# Altium schematic symbol library IFBschelib.SchLib: 126 symbols (part 1 of 2)
Pins are listed as number, name and electrical type; pins without a type are passive.

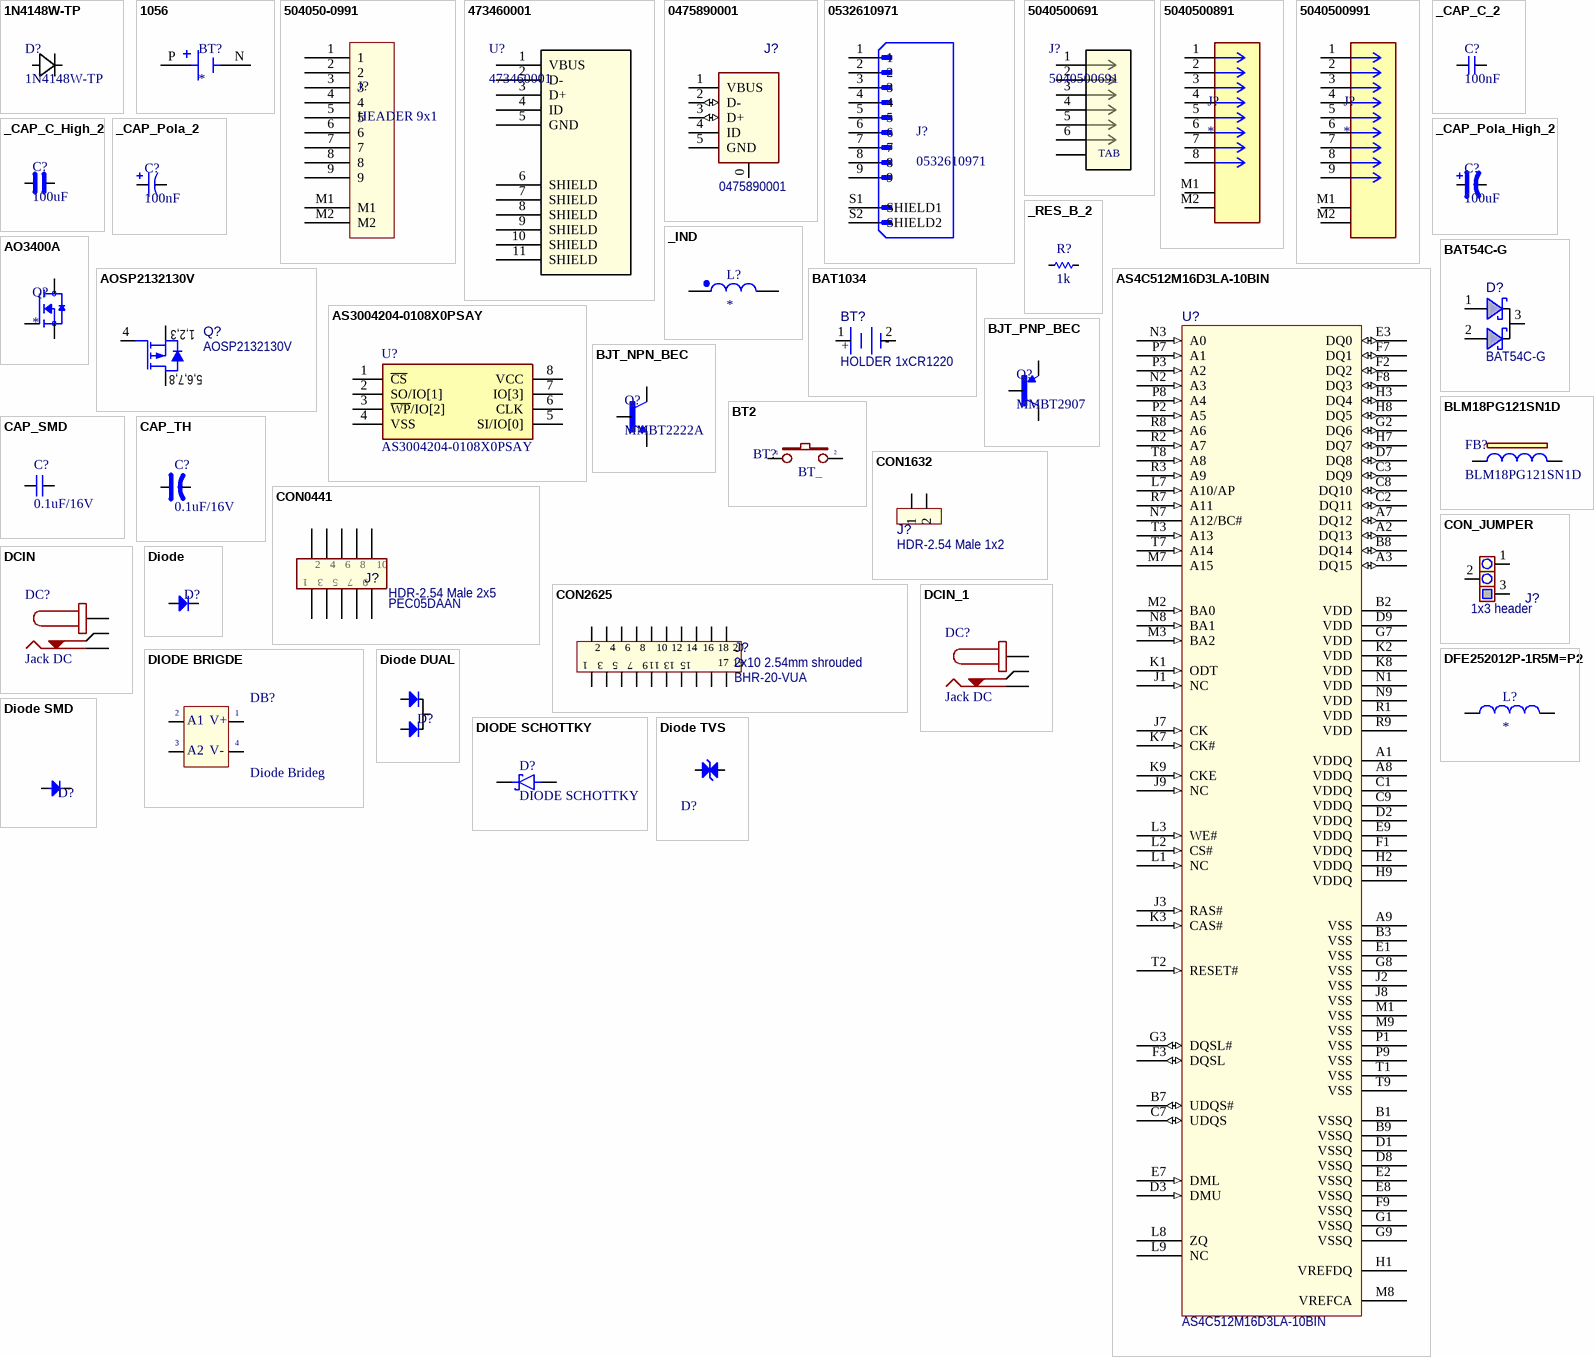
[diagram p0: symbols 1N4148W-TP to Diode TVS]

## 1N4148W-TP
designator D?
Description; Manufacturer_Name: MCC; Copyright: Copyright (C) 2026 Ultra Librarian. All rights reserved.; Manufacturer_Part_Number: 1N4148W-TP
footprint SOD123_MCC
pins: 1, 2

## 1056
designator BT?
BATTERY HOLDER COIN 12.5MM SMD, SMT, 1 Coin Cell, 12mm, Plastic, UL94V-0 | Keystone Electronics 1056; MF: Keystone Electronics Corp.; MP: 1056; SnapEDA_Link: https://www.snapeda.com/parts/1056/Keystone/view-part/?ref=snap; Package: None; Value: *; Check_prices: https://www.snapeda.com/parts/1056/Keystone/view-part/?ref=eda
footprint BAT_1056
pins: N NEG, P POS

## 504050-0991
designator J?, comment HEADER 9x1
Molex Pico-Lock 504050-0991
footprint MOLEX_5040500991
pins: 1, 2, 3, 4, 5, 6, 7, 8, 9, M1, M2

## 473460001
designator U?
Micro-USB B Receptacle with Flange, Bottom Mount, Surface Mount, Lead-Free; Manufacturer_Name: Molex Connector Corporation; Copyright: Copyright (C) 2025 Ultra Librarian. All rights reserved.; Manufacturer_Part_Number: 473460001; RefDes: RefDes; Type: Type
footprint 47346-0001_MOL
pins: 1 VBUS, 2 D-, 3 D+, 4 ID, 5 GND (power), 6 SHIELD (power), 7 SHIELD (power), 8 SHIELD (power), 9 SHIELD (power), 10 SHIELD (power), 11 SHIELD (power)

## 0475890001
designator J?, comment value 0475890001  (hidden comment: CON USB2.0 Mini_Micro)
CONN RCPT MICRO USB AB 5P SMD RA; Manufacturer 1: Molex, LLC; MCHP-ID: CON1753; Description_: CON USB2.0 MICRO-AB FEMALE SMD R/A; Dev Tools Status: Production; Owner: Dragos Danaila; Voltage: 30VAC; Current: 1A, 1.8A; Custom Parameters: 10000 mating cycles; Populated: YES; Revision: 1; Symbol: CON USB2.0 Mini_Micro; Status: MCL Design; ComponentLink1URL: https://chn-vm-apps.microchip.com/mchprepo/parts/Datasheets/475890001_sd.pdf; ComponentLink1Description: SVN Datasheet; ComponentLink2URL: C:\ALTIUM_WORK\00001_MCHP-CDB\Datasheets\475890001_sd.pdf; ComponentLink2Description: Local Datasheet; ComponentLink3URL: C:\ALTIUM_WORK\00001_MCHP-CDB\Library\LibraryRefs\CON USB2.0 Mini_Micro.SchLib; ComponentLink3Description: Open Symbol; ComponentLink4URL: C:\ALTIUM_WORK\00001_MCHP-CDB\Library\Footprints\CON_USB_Micro-AB_SMD_RA_MOLEX_0475890001.PcbLib; ComponentLink4Description: Open Footprint; ComponentLink5Description: Open Footprint 2; ComponentLink6Description: Open Footprint 3; ComponentLink7Description: Open Footprint 4; Type: USB; Category: Connector; Manufacturer Part Number 1: 0475890001; Supplier 1: Digi-Key; Supplier Part Number 1: WM17143CT-ND; Quantity Override: 1; Operating Temperature: -35C to +85C; Assembly Type: SMD
footprint CON_USB_Micro-AB_SMD_RA_MOLEX_0475890001 (Connector, Receptacle, Micro-USB Type AB, R/A, SMT)
pins: 0 SHLD, 1 VBUS (power), 2 D- (io), 3 D+ (io), 4 ID, 5 GND (power)
4 alternate drawings of the same symbol

## 0532610971
designator J?
CONN HEADER SMD R/A 9POS 1.25MM
footprint 0532610971 (CONN HEADER SMD R/A 9POS 1.25MM)
pins: 1, 2, 3, 4, 5, 6, 7, 8, 9, S1 SHIELD1, S2 SHIELD2

## 5040500691
designator J?
1.50mm Pitch, Pico-Lock PCB Header, Single Row, Right-Angle, Surface Mount, Gold (Au) Plating, Positive Lock, 6 Circuits, Tape and Reel; Manufacturer_Name: Molex Connector Corporation; Copyright: Copyright (C) 2025 Ultra Librarian. All rights reserved.; Manufacturer_Part_Number: 5040500691; Datasheet: https://www.molex.com/en-us/products/part-detail-pdf/5040500691?display=pdf; RefDes: RefDes; Type: Type
footprint 5040500691
pins: 1, 2, 3, 4, 5, 6, 7
text: TAB

## 5040500891
designator J?
Connector Header Surface Mount, Right Angle 8 position 0.059" (1.50mm)`
footprint MOLEX_5040500891
footprint MOLEX_5040500891
pins: 1, 2, 3, 4, 5, 6, 7, 8, M1, M2

## 5040500991
designator J?
Connector Header Surface Mount, Right Angle 9 position 0.059" (1.50mm)
footprint 5040500991
pins: 1, 2, 3, 4, 5, 6, 7, 8, 9, M1, M2

## _CAP_C_2
designator C?, comment 100nF
CAP CHIP
footprint CAP_C_1005X60
footprint CAP_C_1608X80 (Chip Capacitor, 2-Leads, Body 1.60x0.80mm, IPC Medium Density)
footprint CAP_C_2012X110 (Chip Capacitor, 2-Leads, Body 2.00x1.25mm, IPC High Density)
footprint CAP_C_3216X140 (Chip Capacitor, 2-Leads, Body 3.20x1.60mm, IPC High Density)
footprint CAP_C_3225X80 (Chip Capacitor, 2-Leads, Body 3.20x2.50mm, IPC Medium Density)
footprint CAP_C_0603x30 (Chip Capacitor, 2-Leads, Body 0.6x0.3mm, IPC Medium Density)
pins: 1, 2

## _CAP_C_High_2
designator C?, comment 100uF
CAP CHIP High Value
footprint CAP_C_1005X60
footprint CAP_C_1608X80 (Chip Capacitor, 2-Leads, Body 1.60x0.80mm, IPC Medium Density)
footprint CAP_C_2012X110 (Chip Capacitor, 2-Leads, Body 2.00x1.25mm, IPC High Density)
footprint CAP_C_3216X140 (Chip Capacitor, 2-Leads, Body 3.20x1.60mm, IPC High Density)
footprint CAP_C_3225X80 (Chip Capacitor, 2-Leads, Body 3.20x2.50mm, IPC Medium Density)
pins: 1, 2

## _CAP_Pola_2
designator C?, comment 100nF
CAP Polarization
footprint CAP_MP_1608X90 (Molded Capacitor, 2-Leads, Body 1.60x0.85mm, IPC Medium Density)
footprint CAP_MP_2012X170 (Molded Capacitor, 2-Leads, Body 2.05x1.40mm, IPC Medium Density)
pins: 1, 2

## _CAP_Pola_High_2
designator C?, comment 100uF
CAP Polarization High Value
footprint CAP_MP_3216X180 (Molded Capacitor, 2-Leads, Body 3.20x1.65mm, IPC Medium Density)
footprint CAP_MP_1608X90 (Molded Capacitor, 2-Leads, Body 1.60x0.85mm, IPC Medium Density)
footprint CAP_MP_2012X170 (Molded Capacitor, 2-Leads, Body 2.05x1.40mm, IPC Medium Density)
footprint CAP_MP_3528X210 (Molded Capacitor, 2-Leads, Body 3.50x2.85mm, IPC Medium Density)
pins: 1, 2

## _IND
designator L?
footprint IND730660x480 (Precision Wire Wound Inductor, 2-Leads, Body 7.30x6.60mm, IPC Medium Density)
footprint IND_C_2012X65 (Chip Inductor, 2-Leads, Body 2.00x1.25mm, IPC High Density)
footprint SRP7050TA-220M
pins: 1, 2

## _RES_B_2
designator R?, comment 1k
RES
footprint RES_C_1005X40
footprint RES_C_1608X60 (Chip Resistor, 2-Leads, Body 1.63x0.83mm, IPC High Density)
footprint RES_C_2012X65 (Chip Resistor, 2-Leads, Body 2.00x1.25mm, IPC High Density)
footprint RES_C_3216X70 (Chip Resistor, 2-Leads, Body 3.20x1.60mm, IPC Medium Density)
footprint RES_C_0603X30 (Chip Resistor, 2-Leads, Body 0.6x0.3mm, IPC Medium Density)
footprint RES_C_1005x30_L (Chip Resistor, 2-Leads, Body 1.0x0.5mm, IPC Medium Density)
pins: 1, 2

## AO3400A
designator Q?
N-Channel 30 V 5.7A (Ta) 1.4W (Ta) Surface Mount SOT-23-3; MF: Alpha & Omega Semiconductor; MP: AO3400A; SnapEDA_Link: https://www.snapeda.com/parts/AO3400A/Alpha/view-part/?ref=snap; Package: SOT-23 Alpha &amp; Omega Semiconductor Inc.; Value: *; Check_prices: https://www.snapeda.com/parts/AO3400A/Alpha/view-part/?ref=eda
footprint SOT95P280X125-3N
pins: 1 G, 2 S, 3 D

## AOSP2132130V
designator Q?, comment value AOSP2132130V  (hidden comment: Transistor MOS-P SSSGDDDD)
MOSFET P-CH 30V 11A 8SOIC; Manufacturer 1: Alpha & Omega Semiconductor Inc.; Manufacturer Part Number 1: AOSP21321; MCHP-ID: TRA1639; Description_: TRANS FET P-CH AOSP2132130V 11A 3.1W SOIC-8; Dev Tools Status: Design; Type: FET; Gate to Source Voltage: 25V; Power: 3.1W; Populated: YES; Owner: Dragos Danaila; Revision: 1; Symbol: Transistor MOS-P SSSGDDDD; Status: MCL Design; Package: SOIC 8; ComponentLink1URL: https://chn-vm-apps.microchip.com/mchprepo/parts/Datasheets/AOSP21321.pdf; ComponentLink1Description: SVN Datasheet; ComponentLink2URL: C:\ALTIUM_WORK\00001_MCHP-CDB\Datasheets\AOSP21321.pdf; ComponentLink2Description: Local Datasheet; ComponentLink3URL: C:\ALTIUM_WORK\00001_MCHP-CDB\Library\LibraryRefs\Transistor MOS-P SSSGDDDD.SchLib; ComponentLink3Description: Open Symbol; ComponentLink4URL: C:\ALTIUM_WORK\00001_MCHP-CDB\Library\Footprints\SOIC-8.PcbLib; ComponentLink4Description: Open Footprint; ComponentLink5Description: Open Footprint 2; ComponentLink6Description: Open Footprint 3; ComponentLink7Description: Open Footprint 4; Operating Temperature: -55C to +150C; Category: Transistor; Current: 11A; Drain to Source Voltage: 30V; Supplier 1: Digi-Key; Supplier Part Number 1: 785-1795-2-ND; Quantity Override: 1
footprint SO8SOP-8L_AOS
pins: 1 S, 2 S, 3 S, 4 G, 5 D, 6 D, 7 D, 8 D
2 alternate drawings of the same symbol
text: 1,2,3; 5,6,7,8

## AS4C512M16D3LA-10BIN
designator U?, comment value AS4C512M16D3LA-10BIN  (hidden comment: AS4C512M16D3LA-10BIN TFBGA-96)
IC DRAM 8GBIT PAR 96FBGA; Manufacturer 1: Alliance Memory, Inc.; MCHP-ID: IC1748; Description_: IC MEMORY AS4C512M16D3LA-10BIN DDR3L 8Gb 933MHz FBGA-96; Dev Tools Status: Design; Vin: 1.35V; Owner: Ciprian Abramov; Populated: YES; Restricted Sourcing: No; Revision: 1; Symbol: AS4C512M16D3LA-10BIN TFBGA-96; Status: MCL Design; Package: TFBGA-96; ComponentLink1URL: https://chn-vm-apps.microchip.com/mchprepo/parts/Datasheets/AllianceMemory_DDR3L_8G_AS4C512M16D3LA-10BCN-BIN-BAN_Feb2019_v1.0.pdf; ComponentLink1Description: SVN Datasheet; ComponentLink2URL: C:\ALTIUM_WORK\00001_MCHP-CDB\Datasheets\AllianceMemory_DDR3L_8G_AS4C512M16D3LA-10BCN-BIN-BAN_Feb2019_v1.0.pdf; ComponentLink2Description: Local Datasheet; ComponentLink3URL: C:\ALTIUM_WORK\00001_MCHP-CDB\Library\LibraryRefs\AS4C512M16D3LA-10BIN TFBGA-96.SchLib; ComponentLink3Description: Open Symbol; ComponentLink4URL: C:\ALTIUM_WORK\00001_MCHP-CDB\Library\Footprints\TFBGA-96_13.5x9.PcbLib; ComponentLink4Description: Open Footprint; ComponentLink5Description: Open Footprint 2; ComponentLink6Description: Open Footprint 3; ComponentLink7Description: Open Footprint 4; Operating Temperature: -40C to +95C; Type: Memory; Category: IC; Manufacturer Part Number 1: AS4C512M16D3LA-10BIN; Supplier 1: Digi-Key; Supplier Part Number 1: 1450-1488-ND; Quantity Override: 1
pins: A1 VDDQ (power), A2 DQ13 (io), A3 DQ15 (io), A7 DQ12 (io), A8 VDDQ (power), A9 VSS (power), B1 VSSQ (power), B2 VDD (power), B3 VSS (power), B7 UDQS# (io), B8 DQ14 (io), B9 VSSQ (power), C1 VDDQ (power), C2 DQ11 (io), C3 DQ9 (io), C7 UDQS (io), C8 DQ10 (io), C9 VDDQ, D1 VSSQ (power), D2 VDDQ (power), D3 DMU (in), D7 DQ8 (io), D8 VSSQ (power), D9 VDD (power), E1 VSS (power), E2 VSSQ (power), E3 DQ0 (io), E7 DML (in), E8 VSSQ (power), E9 VDDQ (power), F1 VDDQ (power), F2 DQ2 (io), F3 DQSL (io), F7 DQ1 (io), F8 DQ3 (io), F9 VSSQ (power), G1 VSSQ (power), G2 DQ6 (io), G3 DQSL# (io), G7 VDD (power), G8 VSS (power), G9 VSSQ (power), H1 VREFDQ (power), H2 VDDQ (power), H3 DQ4 (io), H7 DQ7 (io), H8 DQ5 (io), H9 VDDQ (power), J1 NC (in), J2 VSS (power), J3 RAS# (in), J7 CK (in), J8 VSS (power), J9 NC (in), K1 ODT (in), K2 VDD (power), K3 CAS# (in), K7 CK# (in), K8 VDD (power), K9 CKE (in), L1 NC (in), L2 CS# (in), L3 WE# (in), L7 A10/AP (in), L8 ZQ, L9 NC, M1 VSS, M2 BA0 (in), M3 BA2 (in), M7 A15, M8 VREFCA (power), M9 VSS (power), N1 VDD (power), N2 A3 (in), N3 A0 (in), N7 A12/BC#, N8 BA1 (in), N9 VDD (power), P1 VSS (power), P2 A5 (in), P3 A2 (in), P7 A1 (in), P8 A4 (in), P9 VSS, R1 VDD (power), R2 A7 (in), R3 A9 (in), R7 A11 (in), R8 A6 (in), R9 VDD (power), T1 VSS (power), T2 RESET# (in), T3 A13 (in), T7 A14 (in), T8 A8 (in), T9 VSS (power)

## AS3004204-0108X0PSAY
designator U?
MRAM Avalanche High Performance Serial P-SRAM 4Mb in SOIC8 package with QSPI - 108MHz interface, 3V, -40 C to 105 C; Manufacturer_Name: Avalanche Technology; Geometry.Height: 2.16mm; Manufacturer_Part_Number: AS3004204-0108X0PSAY; Mouser Part Number: 793-30042040108X0PSY; Mouser Price/Stock: https://www.mouser.co.uk/ProductDetail/Avalanche-Technology/AS3004204-0108X0PSAY/?qs=eP2BKZSCXI7G0ggegRejGg%3D%3D; Arrow Part Number: *; Arrow Price/Stock: *; Datasheet Link: https://www.mouser.ph/ProductDetail/Avalanche-Technology/AS3004204-0108X0PSAY?qs=eP2BKZSCXI7G0ggegRejGg%3D%3D
footprint SOIC127P790X216-8N
pins: 1 ~{CS}, 2 SO/IO[1], 3 ~{WP}/IO[2], 4 VSS, 5 SI/IO[0], 6 CLK, 7 IO[3], 8 VCC

## BAT54C-G
designator D?, comment value BAT54C-G  (hidden comment: Diode Schottky Dual CK)
DIODE ARR SCHOTT 30V 200MA SOT23; Manufacturer 1: Comchip Technology; MCHP-ID: DIODE1841; Description_: DIO SCTKY ARRAY BAT54C-G 520mV 200mA 30V SMD SOT-23-3; Dev Tools Status: Production; Type: Schottky Array; Power: 225mW; Reverse Current: 2mA; Reverse Recovery Time: 5ns; Owner: Cristina Salanti; Populated: YES; Restricted Sourcing: No; Revision: 1; Symbol: Diode Schottky Dual CK; Status: MCL Design; Package: SOT-23-3; ComponentLink1URL: https://chn-vm-apps.microchip.com/mchprepo/parts/Datasheets/BAT54.pdf; ComponentLink1Description: SVN Datasheet; ComponentLink2URL: C:\ALTIUM_WORK\00001_MCHP-CDB\Datasheets\BAT54.pdf; ComponentLink2Description: Local Datasheet; ComponentLink3URL: C:\ALTIUM_WORK\00001_MCHP-CDB\Library\LibraryRefs\Diode Schottky Dual CK.SchLib; ComponentLink3Description: Open Symbol; ComponentLink4URL: C:\ALTIUM_WORK\00001_MCHP-CDB\Library\Footprints\SOT-23-3.PcbLib; ComponentLink4Description: Open Footprint; ComponentLink5Description: Open Footprint 2; ComponentLink6Description: Open Footprint 3; ComponentLink7Description: Open Footprint 4; Operating Temperature: -55C to +125C; Category: Diode; Forward Current: 200mA; Reverse Voltage: 30V; Manufacturer Part Number 1: BAT54C-G; Supplier 1: Digi-Key; Supplier Part Number 1: 641-1320-1-ND; Quantity Override: 1
footprint SOT-23-3
pins: 1 A, 2 A, 3 KK

## BAT1034
designator BT?, comment value HOLDER 1xCR1220  (hidden comment: Battery 2 Pin)
Battery; Manufacturer 1: Keystone Electronics; Manufacturer Part Number 1: 3001; MCHP-ID: BAT1034; Description_: BATT HOLDER 1 COIN 12MM TH 3V; Dev Tools Status: Design; Owner: Sam Charles; Voltage: 3V; Chemistry: Li; Capacity: 35mAh; Populated: YES; Revision: A; Symbol: Battery 2 Pin; Status: MCL Design; ComponentLink1URL: https://chn-vm-apps.microchip.com/mchprepo/parts/Datasheets/3001.PDF; ComponentLink1Description: SVN Datasheet; ComponentLink2URL: C:\ALTIUM_WORK\00001_MCHP-CDB\Datasheets\3001.PDF; ComponentLink2Description: Local Datasheet; ComponentLink3URL: C:\ALTIUM_WORK\00001_MCHP-CDB\Library\LibraryRefs\Battery 2 Pin.SchLib; ComponentLink3Description: Open Symbol; ComponentLink4URL: C:\ALTIUM_WORK\00001_MCHP-CDB\Library\Footprints\BATT_HOLDER_12MM_3001.PcbLib; ComponentLink4Description: Open Footprint; ComponentLink5Description: Open Footprint 2; ComponentLink6Description: Open Footprint 3; ComponentLink7Description: Open Footprint 4; Type: Holder; Category: Battery; Supplier 1: Digi-Key; Supplier Part Number 1: 36-3001-ND; Quantity Override: 1
footprint BATT_HOLDER_12MM_3001
pins: 1 + (power), 2 - (power)
1 alternate drawing of the same symbol

## BJT_NPN_BEC
designator Q?, comment MMBT2222A
MF: Diotec Semiconductor; SnapEDA_Link: https://www.snapeda.com/parts/MMBT2222A/Diotec/view-part/?ref=snap; Package: SOT-23 Diotec; Value: *; MP: MMBT2222A; Check_prices: https://www.snapeda.com/parts/MMBT2222A/Diotec/view-part/?ref=eda
footprint SOT95P240X120-3N
pins: 1 B, 2 E, 3 C

## BJT_PNP_BEC
designator Q?, comment MMBT2907
MF: Diotec Semiconductor; MP: MMBT2222A; SnapEDA_Link: https://www.snapeda.com/parts/MMBT2222A/Diotec/view-part/?ref=snap; Package: SOT-23 Diotec; Value: *; Check_prices: https://www.snapeda.com/parts/MMBT2222A/Diotec/view-part/?ref=eda
footprint SOT95P240X120-3N
pins: 1 B, 2 E, 3 C

## BLM18PG121SN1D
designator FB?
FERRITE BEAD 120 OHM 0603 1LN; Manufacturer_Name: Murata; Copyright: Copyright (C) 2025 Ultra Librarian. All rights reserved.; Manufacturer_Part_Number: BLM18PG121SN1D
footprint IND_BLM18_0603_MUR
pins: 1, 2

## BT2
designator BT?, comment BT_
Switch button 2 pin; Value: SW chip 2 pin
footprint SW2-SMD
pins: 1, 2

## CAP_SMD
designator C?, comment 0.1uF/16V
CAP_Chip; Value: 33pF
pins: 1, 2

## CAP_TH
designator C?, comment 0.1uF/16V
CAP_Polarization; Published: 8-Jun-2000; LatestRevisionDate: 17-Jul-2002; LatestRevisionNote: Re-released for DXP Platform.; PackageReference: POLAR0.8; Publisher: Altium Limited
pins: 1, 2
1 alternate drawing of the same symbol

## CON0441
designator J?, comment value HDR-2.54 Male 2x5  Manufacturer Part Number 1: PEC05DAAN  (hidden comment: Header 2x5)
Manufacturer 1: Sullins; MCHP-ID: CON0441; Description_: CON HDR-2.54 Male 2x5 Tin 5.84MH TH VERT; Dev Tools Status: Production; Owner: Mike Sullivan (Arena); Current: 3A; Revision: 1; Symbol: Header 2x5; Status: MCL Design; ComponentLink1URL: https://chn-vm-apps.microchip.com/mchprepo/parts/Datasheets/97_Page78-79_HEADER_.100_2.54mm_MALE_BREAKAWAY.pdf; ComponentLink1Description: SVN Datasheet; ComponentLink2URL: C:\ALTIUM_WORK\00001_MCHP-CDB\Datasheets\97_Page78-79_HEADER_.100_2.54mm_MALE_BREAKAWAY.pdf; ComponentLink2Description: Local Datasheet; ComponentLink3URL: C:\ALTIUM_WORK\00001_MCHP-CDB\Library\LibraryRefs\Header 2x5.SchLib; ComponentLink3Description: Open Symbol; ComponentLink4URL: C:\ALTIUM_WORK\00001_MCHP-CDB\Library\Footprints\HDR_M_2.54_2x5.PcbLib; ComponentLink4Description: Open Footprint; ComponentLink5Description: Open Footprint 2; ComponentLink6Description: Open Footprint 3; ComponentLink7Description: Open Footprint 4; Type: Header 2.54mm; Category: Connector; Manufacturer 2: SHENZHEN JUNHAO ENGINEERING; Manufacturer Part Number 2: R-213-1011-0021-400; Supplier 1: Digi-Key; Supplier Part Number 1: S2012E-05-ND; Supplier 2: Raynen; Supplier Part Number 2: CONN00288C01M; Quantity Override: 1
footprint HDR_M_2.54_2x5
pins: 1, 2, 3, 4, 5, 6, 7, 8, 9, 10
3 alternate drawings of the same symbol

## CON1632
designator J?, comment value HDR-2.54 Male 1x2  (hidden comment: Header 1x2)
Manufacturer 1: Würth Elektronik; Manufacturer Part Number 1: 61300211121; MCHP-ID: CON1632; Description_: CON HDR-2.54 Male 1x2 Gold 5.84MH TH VERT; Dev Tools Status: Production; Owner: Narasimha Murthy; Populated: YES; Voltage: 250V; Current: 3A; Revision: 3; Symbol: Header 1x2; Status: MCL Design; ComponentLink1URL: https://chn-vm-apps.microchip.com/mchprepo/parts/Datasheets/6130xx11121.pdf; ComponentLink1Description: SVN Datasheet; ComponentLink2URL: C:\ALTIUM_WORK\00001_MCHP-CDB\Datasheets\6130xx11121.pdf; ComponentLink2Description: Local Datasheet; ComponentLink3URL: C:\ALTIUM_WORK\00001_MCHP-CDB\Library\LibraryRefs\Header 1x2.SchLib; ComponentLink3Description: Open Symbol; ComponentLink4URL: C:\ALTIUM_WORK\00001_MCHP-CDB\Library\Footprints\HDR_M_2.54_1x2.PcbLib; ComponentLink4Description: Open Footprint; ComponentLink5Description: Open Footprint 2; ComponentLink6Description: Open Footprint 3; ComponentLink7Description: Open Footprint 4; Type: Header 2.54mm; Category: Connector; Supplier 1: Digi-Key; Supplier Part Number 1: 732-5315-ND; Quantity Override: 1; Manufacturer 2: SHENZHEN JUNHAO ENGINEERING; Manufacturer Part Number 2: R-211-0211-0021-000; Supplier 2: SHENZHEN JUNHAO ENGINEERING; Supplier Part Number 2: R-211-0211-0021-000; Assembly Type: TH
footprint HDR_M_2.54_1x2 (Header Male Vertical 2 Way 2.54mm Pitch)
pins: 1, 2
9 alternate drawings of the same symbol

## CON2625
designator J?, comment value 2x10 2.54mm shrouded  Manufacturer Part Number 1: BHR-20-VUA  (hidden comment: Header 2x10)
Manufacturer 1: Adam Tech; MCHP-ID: CON2625; Description_: CON HDR-2.54 Male 2x10 Gold Shroud 9.1MH TH VERT; Dev Tools Status: Design; Owner: Dragos Danaila; Populated: YES; Voltage: 250VAC; Current: 3A; Revision: 1; Symbol: Header 2x10; Status: MCL Design; ComponentLink1URL: https://chn-vm-apps.microchip.com/mchprepo/parts/Datasheets/bhr-xx-vua-data-sheet.pdf; ComponentLink1Description: SVN Datasheet; ComponentLink2URL: C:\ALTIUM_WORK\00001_MCHP-CDB\Datasheets\bhr-xx-vua-data-sheet.pdf; ComponentLink2Description: Local Datasheet; ComponentLink3URL: C:\ALTIUM_WORK\00001_MCHP-CDB\Library\LibraryRefs\Header 2x10.SchLib; ComponentLink3Description: Open Symbol; ComponentLink4URL: C:\ALTIUM_WORK\00001_MCHP-CDB\Library\Footprints\HDR_M_2.54_2X10_SBH11-PBPC-D10-ST-BK.PcbLib; ComponentLink4Description: Open Footprint; ComponentLink5Description: Open Footprint 2; ComponentLink6Description: Open Footprint 3; ComponentLink7Description: Open Footprint 4; Type: Header 2.54mm; Category: Connector; Supplier 1: Digi-Key; Supplier Part Number 1: 2057-BHR-20-VUA-ND; Quantity Override: 1; Operating Temperature: -50C to +105C; Assembly Type: TH
footprint HDR_M_2.54_2X10_SBH11-PBPC-D10-ST-BK (20 Positions Header Connector 0.100" (2.54mm) Through Hole Gold)
pins: 1, 2, 3, 4, 5, 6, 7, 8, 9, 10, 11, 12, 13, 14, 15, 16, 17, 18, 19, 20
4 alternate drawings of the same symbol

## CON_JUMPER
designator J?, comment value 1x3 header  (hidden comment: Header 1x3)
used for choose jumper, header 3pins 2.54mm; Manufacturer 1: METZ CONNECT USA Inc.; Manufacturer Part Number 1: PR20203VBNN; MCHP-ID: CON2491; Description_: CON HDR-2.54 Male 1x3 Gold 6.10MH TH VERT; Dev Tools Status: Production; Owner: Dragos Danaila; Current: 3A; Populated: YES; Revision: 2; Symbol: Header 1x3; Status: MCL Design; ComponentLink1URL: https://chn-vm-apps.microchip.com/mchprepo/parts/Datasheets/Data_sheet_PR202XXVBNN.PDF; ComponentLink1Description: SVN Datasheet; ComponentLink2URL: C:\ALTIUM_WORK\00001_MCHP-CDB\Datasheets\Data_sheet_PR202XXVBNN.PDF; ComponentLink2Description: Local Datasheet; ComponentLink3URL: C:\ALTIUM_WORK\00001_MCHP-CDB\Library\LibraryRefs\Header 1x3.SchLib; ComponentLink3Description: Open Symbol; ComponentLink4URL: C:\ALTIUM_WORK\00001_MCHP-CDB\Library\Footprints\HDR_M_2.54_1x3.PcbLib; ComponentLink4Description: Open Footprint; ComponentLink5Description: Open Footprint 2; ComponentLink6Description: Open Footprint 3; ComponentLink7Description: Open Footprint 4; Type: Header 2.54mm; Category: Connector; Supplier 1: Digi-Key; Supplier Part Number 1: Deprecated_1849-1003-ND; Quantity Override: 1; Operating Temperature: -40C to +105C; Assembly Type: TH
footprint HDR_M_2.54_1x3 (Header Male Vertical 4 Way P=2.54mm)
pins: 1, 2, 3
6 alternate drawings of the same symbol

## DCIN
designator DC?, comment Jack DC
Jack DC input; Value: Jac DC
footprint DC0 (Jac DC input)
pins: 1 S (power) "Sleeve (Ground)", 2 TN "Tip Normal (Break Contact)", 3 T "Tip"

## DCIN_1
designator DC?, comment Jack DC
Jack DC input; Value: Jac DC
footprint DC0 (Jac DC input)
pins: 1 S (power) "Sleeve (Ground)", 2 TN "Tip Normal (Break Contact)", 3 T "Tip"

## DFE252012P-1R5M=P2
designator L?
Fixed Inductor 1.5uH 3.5A R060 SMD; MP: DFE252012P-1R5M=P2; Package: None; Price: None; Value: *; Availability: Unavailable
footprint INDC2520X120N
pins: 1, 2

## Diode
designator D?  (value not drawn)
Default Diode; Code - JEDEC: DO-214-AB; Value: 1N5007; Published: 8-Jun-2000; Revision: July-2002: Re-released for DXP Platform.; Publisher: Altium Limited
footprint DIO-1A
footprint DIO-0.5A-SMALL (Diode muoi, W 80mil, L 300mil)
footprint DIO-1A-SMALL (Diode 1A, W 100mil, L 350mil)
footprint DIO-2A (Diode 2A, W 150mil, L 450mil)
footprint DIO-5A (Diode 5A, W 200mil, L 550mil)
footprint DIO-5AN (Diode 5A, W 200mil, L 250mil)
footprint DIO-1AN (Diode 1A, W 100mil, L 150mil)
footprint DIO-3A (Diode 3A)
footprint DIO-2A - LONG (Diode 2A, W 150mil, L 450mil)
footprint DIO-2AN (Diode 2A, W 150mil, L 450mil)
footprint DIO-5A - LONG (Diode 5A, W 200mil, L 550mil)
footprint DIO-7A-SMALL (Diode 7A)
pins: 1 A, 2 K

## DIODE BRIGDE
designator DB?, comment Diode Brideg
Convert AC to DC voltage, 4 pin; Value: Cau 1A
footprint DIO-Bri 5A (Brigde 5A)
footprint DIO-Bri 1A
footprint DIO-Bri 2A (CAU 2A DET)
footprint DIO-BRI 35A (35A/1000V)
footprint DIO-Bri 10A (Brigde 10A)
footprint DIO-Bri 6A (Brigde 6A)
footprint DIO-Bri 8A (Brigde 8A)
footprint MB6S
pins: 1 +V OUT, 2 AC1, 3 AC2, 4 -V OUT
text: A1; V+; A2; V-

## Diode DUAL
designator D?  (value not drawn)
Default Diode; Code - JEDEC: DO-214-AB; Value: 1N5007; Published: 8-Jun-2000; Revision: July-2002: Re-released for DXP Platform.; Publisher: Altium Limited
footprint TO252-123
footprint TO220H2 (TO-220 - 1-2-3)
footprint TO220H1 (TO-220 - 1-2-3)
footprint TO220H3 (TO-220 1-2-3)
footprint TO247
footprint TO220-123 (TO-220 - 1-2-3)
footprint TO247+LageHeatsink
pins: 1, 2, 3

## DIODE SCHOTTKY
designator D?
pins: 1 K, 2 A

## Diode SMD
designator D?
Default Diode; Code - JEDEC: DO-214-AB; Value: 1N5007; Published: 8-Jun-2000; Revision: July-2002: Re-released for DXP Platform.; Publisher: Altium Limited
footprint DIO-SMD-106
footprint DIO-SMD-123
footprint DIO-SMD-A
footprint DIO-SMD-B (Magnetic-Core Inductor with Winding Polarity Marking; 2 Leads)
footprint DIO-SMD-216AA (DO216AA ST-MITE)
footprint DIO-SMD-222AA (DO216AA ST-MITE)
footprint DIO-SMD-C
footprint DIO-SMD-323
pins: 1 K, 2 A

## Diode TVS
designator D?
TVS Diode; Code - JEDEC: DO-214-AB; Value: 1N5007; Published: 8-Jun-2000; Revision: July-2002: Re-released for DXP Platform.; Publisher: Altium Limited
footprint DIO-SMD-106
footprint DIO-SMD-123
footprint DIO-SMD-A
footprint DIO-SMD-B (Magnetic-Core Inductor with Winding Polarity Marking; 2 Leads)
footprint DIO-SMD-216AA (DO216AA ST-MITE)
footprint DIO-SMD-222AA (DO216AA ST-MITE)
footprint DIO-SMD-C
footprint DIO-SMD-323
pins: 1 A, 2 K

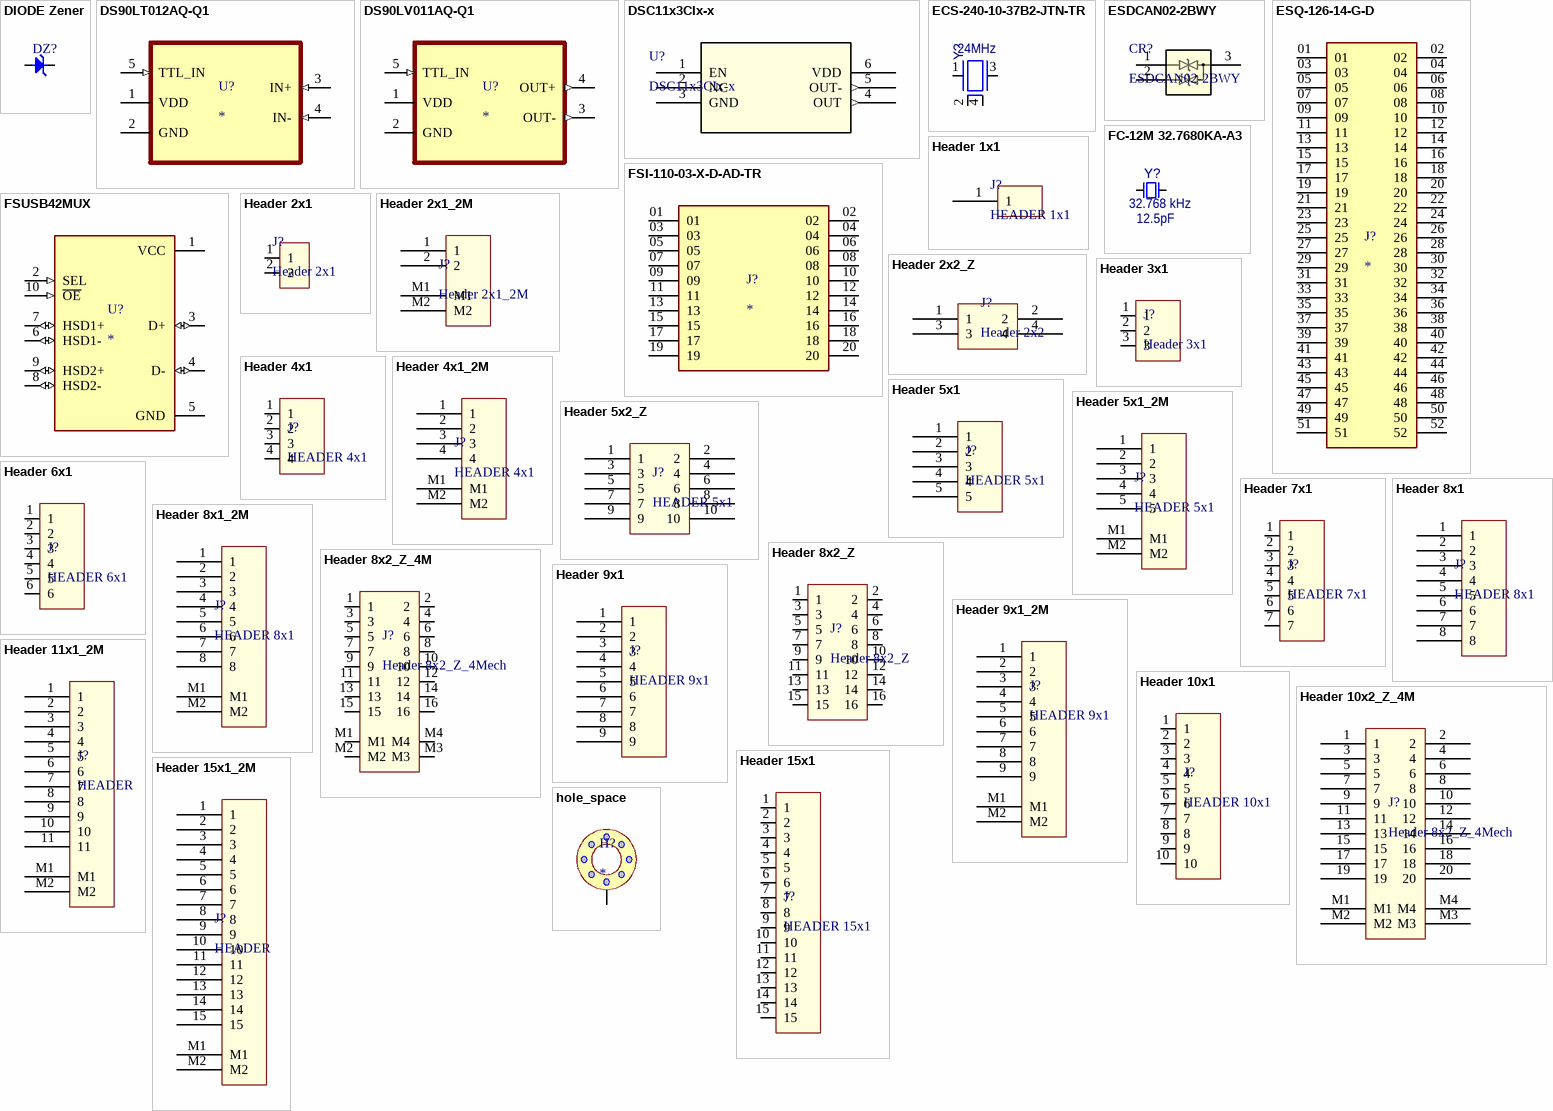
[diagram p1: symbols DIODE Zener to hole_space]

## DIODE Zener
designator DZ?
Zenner
footprint DIO-0.5A-SMALL (Diode muoi, W 80mil, L 300mil)
footprint DIO-1A
footprint DIO-1A-SMALL (Diode 1A, W 100mil, L 350mil)
footprint DIO-1AN (Diode 1A, W 100mil, L 150mil)
footprint DIO-2A (Diode 2A, W 150mil, L 450mil)
footprint DIO-2A - LONG (Diode 2A, W 150mil, L 450mil)
footprint DIO-1A-ZEN (Diode 1A, W 100mil, L 350mil)
footprint DIO-2A-ZEN
pins: 1 K, 2 A

## DS90LT012AQ-Q1
designator U?
Automotive LVDS Differential Driver
footprint DS90LV011AQ-Q1
pins: 1 VDD (power), 2 GND (power), 3 IN+ (in), 4 IN- (in), 5 TTL_IN (in)

## DS90LV011AQ-Q1
designator U?
Automotive LVDS Differential Driver
footprint DS90LV011AQ-Q1
pins: 1 VDD (power), 2 GND (power), 3 OUT- (out), 4 OUT+ (out), 5 TTL_IN (in)

## DSC11x3CIx-x
designator U?
No Description Available; Manufacturer_Name: Microchip; Manufacturer_Part_Number: DSC1103CI2-180.0000T; Copyright: Copyright (C) 2026 Ultra Librarian. All rights reserved.; RefDes: RefDes; Type: Type
footprint VDFN6_3P2X2P5_MCH
pins: 1 EN, 2 NC, 3 GND (power), 4 OUT (out), 5 OUT- (out), 6 VDD (power)

## ECS-240-10-37B2-JTN-TR
designator Y?, comment value 24MHz  (hidden comment: Crystal 4 Pins)
CRYSTAL 24 MHZ 10PF SMD; Manufacturer 1: ECS Inc; Manufacturer Part Number 1: ECS-240-10-37B2-JTN-TR; MCHP-ID: OSC1299; Description_: CRYSTAL 24MHz 10pF SMD L2W1.6H0.5; Dev Tools Status: Design; Owner: Ciprian Abramov; Tolerance: 20ppm; Populated: YES; Revision: 1; Symbol: Crystal 4 Pins; Status: MCL Design; ComponentLink1URL: https://chn-vm-apps.microchip.com/mchprepo/parts/Datasheets/ECX-1637B2.pdf; ComponentLink1Description: SVN Datasheet; ComponentLink2URL: C:\ALTIUM_WORK\00001_MCHP-CDB\Datasheets\ECX-1637B2.pdf; ComponentLink2Description: Local Datasheet; ComponentLink3URL: C:\ALTIUM_WORK\00001_MCHP-CDB\Library\LibraryRefs\Crystal 4 Pins.SchLib; ComponentLink3Description: Open Symbol; ComponentLink4URL: C:\ALTIUM_WORK\00001_MCHP-CDB\Library\Footprints\CRYSTAL_L2.0W1.6H0.5_FA-128.PcbLib; ComponentLink4Description: Open Footprint; ComponentLink5Description: Open Footprint 2; ComponentLink6Description: Open Footprint 3; ComponentLink7Description: Open Footprint 4; Operating Temperature: -40C to +85C; Package: L2.0W1.6H0.5; Type: Crystal; Category: Crystal/Oscillator; Load Capacitance: 10pF; Supplier 1: Digi-Key; Supplier Part Number 1: 50-ECS-240-10-37B2-JTN-TR-ND; Quantity Override: 1
footprint XTAL_ECS2401037B2JTNTR
pins: 1 Osc1, 2 GND (power), 3 Osc2, 4 GND (power)
1 alternate drawing of the same symbol

## ESDCAN02-2BWY
designator CR?
Automotive dual-line TVS in SOT323-3L for CAN bus (12 V system); Manufacturer_Name: STMicroelectronics; Copyright: Copyright (C) 2025 Ultra Librarian. All rights reserved.; Manufacturer_Part_Number: ESDCAN02-2BWY; RefDes: RefDes; Type: Type
footprint SOT323-3L_STM
pins: 1, 2, 3

## ESQ-126-14-G-D
designator J?
MP: ESQ-126-14-G-D; MF: Samtec; Price: None; Package: None; Value: *; Availability: Unavailable
footprint ESQ-126-14-G-D
pins: 01, 02, 03, 04, 05, 06, 07, 08, 09, 10, 11, 12, 13, 14, 15, 16, 17, 18, 19, 20, 21, 22, 23, 24, 25, 26, 27, 28, 29, 30, 31, 32, 33, 34, 35, 36, 37, 38, 39, 40, 41, 42, 43, 44, 45, 46, 47, 48, 49, 50, 51, 52

## FC-12M 32.7680KA-A3
designator Y?, comment value 32.768 kHz  Load Capacitance: 12.5pF  (hidden comment: Crystal 2 Pins)
CRYSTAL 32.7680KHZ 12.5PF SMD; Manufacturer 1: Epson; Manufacturer Part Number 1: FC-12M 32.7680KA-A3; MCHP-ID: OSC1269; Description_: CRYSTAL 32.768KHZ 12.5PF SMD 2-SMD, No Lead, FC-12M 32.7680KA-A3; Dev Tools Status: Design; Owner: Dragos Danaila; Tolerance: 20ppm; Populated: YES; Revision: 1; Symbol: Crystal 2 Pins; Status: MCL Design; ComponentLink1URL: https://chn-vm-apps.microchip.com/mchprepo/parts/Datasheets/FC-12D_en.pdf; ComponentLink1Description: SVN Datasheet; ComponentLink2URL: C:\ALTIUM_WORK\00001_MCHP-CDB\Datasheets\FC-12D_en.pdf; ComponentLink2Description: Local Datasheet; ComponentLink3URL: C:\ALTIUM_WORK\00001_MCHP-CDB\Library\LibraryRefs\Crystal 2 Pins.SchLib; ComponentLink3Description: Open Symbol; ComponentLink4URL: C:\ALTIUM_WORK\00001_MCHP-CDB\Library\Footprints\CRYSTAL_FC-12M_L2.05W1.2H0.6.PcbLib; ComponentLink4Description: Open Footprint; ComponentLink5Description: Open Footprint 2; ComponentLink6Description: Open Footprint 3; ComponentLink7Description: Open Footprint 4; Operating Temperature: -40°C ~ 85°C; Package: 2-SMD, No Lead; Type: Crystal; Category: Crystal/Oscillator; Supplier 1: Digikey; Supplier Part Number 1: SER3672CT-ND; Quantity Override: 1
footprint CRYSTAL_FC-12M_L2.05W1.2H0.6
pins: 1 Osc1, 2 Osc2

## FSI-110-03-X-D-AD-TR
designator J?
1mm SINGLE ELEMENT INTERFACE; MP: FSI-110-03-X-D-AD-TR; Price: None; Package: None; Availability: Unavailable; Value: *
footprint SAMTEC_FSI-110-03-X-D-AD-TR
pins: 01, 02, 03, 04, 05, 06, 07, 08, 09, 10, 11, 12, 13, 14, 15, 16, 17, 18, 19, 20

## FSUSB42MUX
designator U?
FSUSB42 Series DPDT 4.3 V 480 Mbps SMT Hi Speed USB 2.0 Switch - MSOP-10; MF: ON Semiconductor; MP: FSUSB42MUX; SnapEDA_Link: https://www.snapeda.com/parts/FSUSB42MUX/Onsemi/view-part/?ref=snap; Package: MSOP-10 ON Semiconductor; Value: *; Check_prices: https://www.snapeda.com/parts/FSUSB42MUX/Onsemi/view-part/?ref=eda
footprint SOP50P490X110-10N
pins: 1 VCC (power), 2 SEL (in), 3 D+ (io), 4 D- (io), 5 GND (power), 6 HSD1- (io), 7 HSD1+ (io), 8 HSD2- (io), 9 HSD2+ (io), 10 ~{OE} (in)

## Header 1x1
designator J?, comment HEADER 1x1
pins: 1

## Header 2x1
designator J?
footprint JST_B2B-XH-A
footprint JP2-D1T
pins: 1, 2

## Header 2x1_2M
designator J?
footprint JST_B2B-XH-A
footprint JP2-D1T
pins: 1, 2, M1, M2

## Header 2x2_Z
designator J?, comment Header 2x2
pins: 1, 2, 3, 4

## Header 3x1
designator J?
pins: 1, 2, 3

## Header 4x1
designator J?, comment HEADER 4x1
pins: 1, 2, 3, 4

## Header 4x1_2M
designator J?, comment HEADER 4x1
pins: 1, 2, 3, 4, M1, M2

## Header 5x1
designator J?, comment HEADER 5x1
footprint Header_254P_5x1
pins: 1, 2, 3, 4, 5

## Header 5x1_2M
designator J?, comment HEADER 5x1
pins: 1, 2, 3, 4, 5, M1, M2

## Header 5x2_Z
designator J?, comment HEADER 5x1
pins: 1, 2, 3, 4, 5, 6, 7, 8, 9, 10

## Header 6x1
designator J?, comment HEADER 6x1
pins: 1, 2, 3, 4, 5, 6

## Header 7x1
designator J?, comment HEADER 7x1
pins: 1, 2, 3, 4, 5, 6, 7

## Header 8x1
designator J?, comment HEADER 8x1
pins: 1, 2, 3, 4, 5, 6, 7, 8

## Header 8x1_2M
designator J?, comment HEADER 8x1
pins: 1, 2, 3, 4, 5, 6, 7, 8, M1, M2

## Header 8x2_Z
designator J?
Header 8x2 Zigzag pin
pins: 1, 2, 3, 4, 5, 6, 7, 8, 9, 10, 11, 12, 13, 14, 15, 16

## Header 8x2_Z_4M
designator J?, comment Header 8x2_Z_4Mech
Header 8x2 Zigzag pin_4Mech
pins: 1, 2, 3, 4, 5, 6, 7, 8, 9, 10, 11, 12, 13, 14, 15, 16, M1, M2, M3, M4

## Header 9x1
designator J?, comment HEADER 9x1
pins: 1, 2, 3, 4, 5, 6, 7, 8, 9

## Header 9x1_2M
designator J?, comment HEADER 9x1
pins: 1, 2, 3, 4, 5, 6, 7, 8, 9, M1, M2

## Header 10x1
designator J?, comment HEADER 10x1
pins: 1, 2, 3, 4, 5, 6, 7, 8, 9, 10

## Header 10x2_Z_4M
designator J?, comment Header 8x2_Z_4Mech
Header 8x2 Zigzag pin_4Mech
pins: 1, 2, 3, 4, 5, 6, 7, 8, 9, 10, 11, 12, 13, 14, 15, 16, 17, 18, 19, 20, M1, M2, M3, M4

## Header 11x1_2M
designator J?, comment HEADER
pins: 1, 2, 3, 4, 5, 6, 7, 8, 9, 10, 11, M1, M2

## Header 15x1
designator J?, comment HEADER 15x1
pins: 1, 2, 3, 4, 5, 6, 7, 8, 9, 10, 11, 12, 13, 14, 15

## Header 15x1_2M
designator J?, comment HEADER
pins: 1, 2, 3, 4, 5, 6, 7, 8, 9, 10, 11, 12, 13, 14, 15, M1, M2

## hole_space
designator H?
footprint HOLE_SPACE
pins: 1

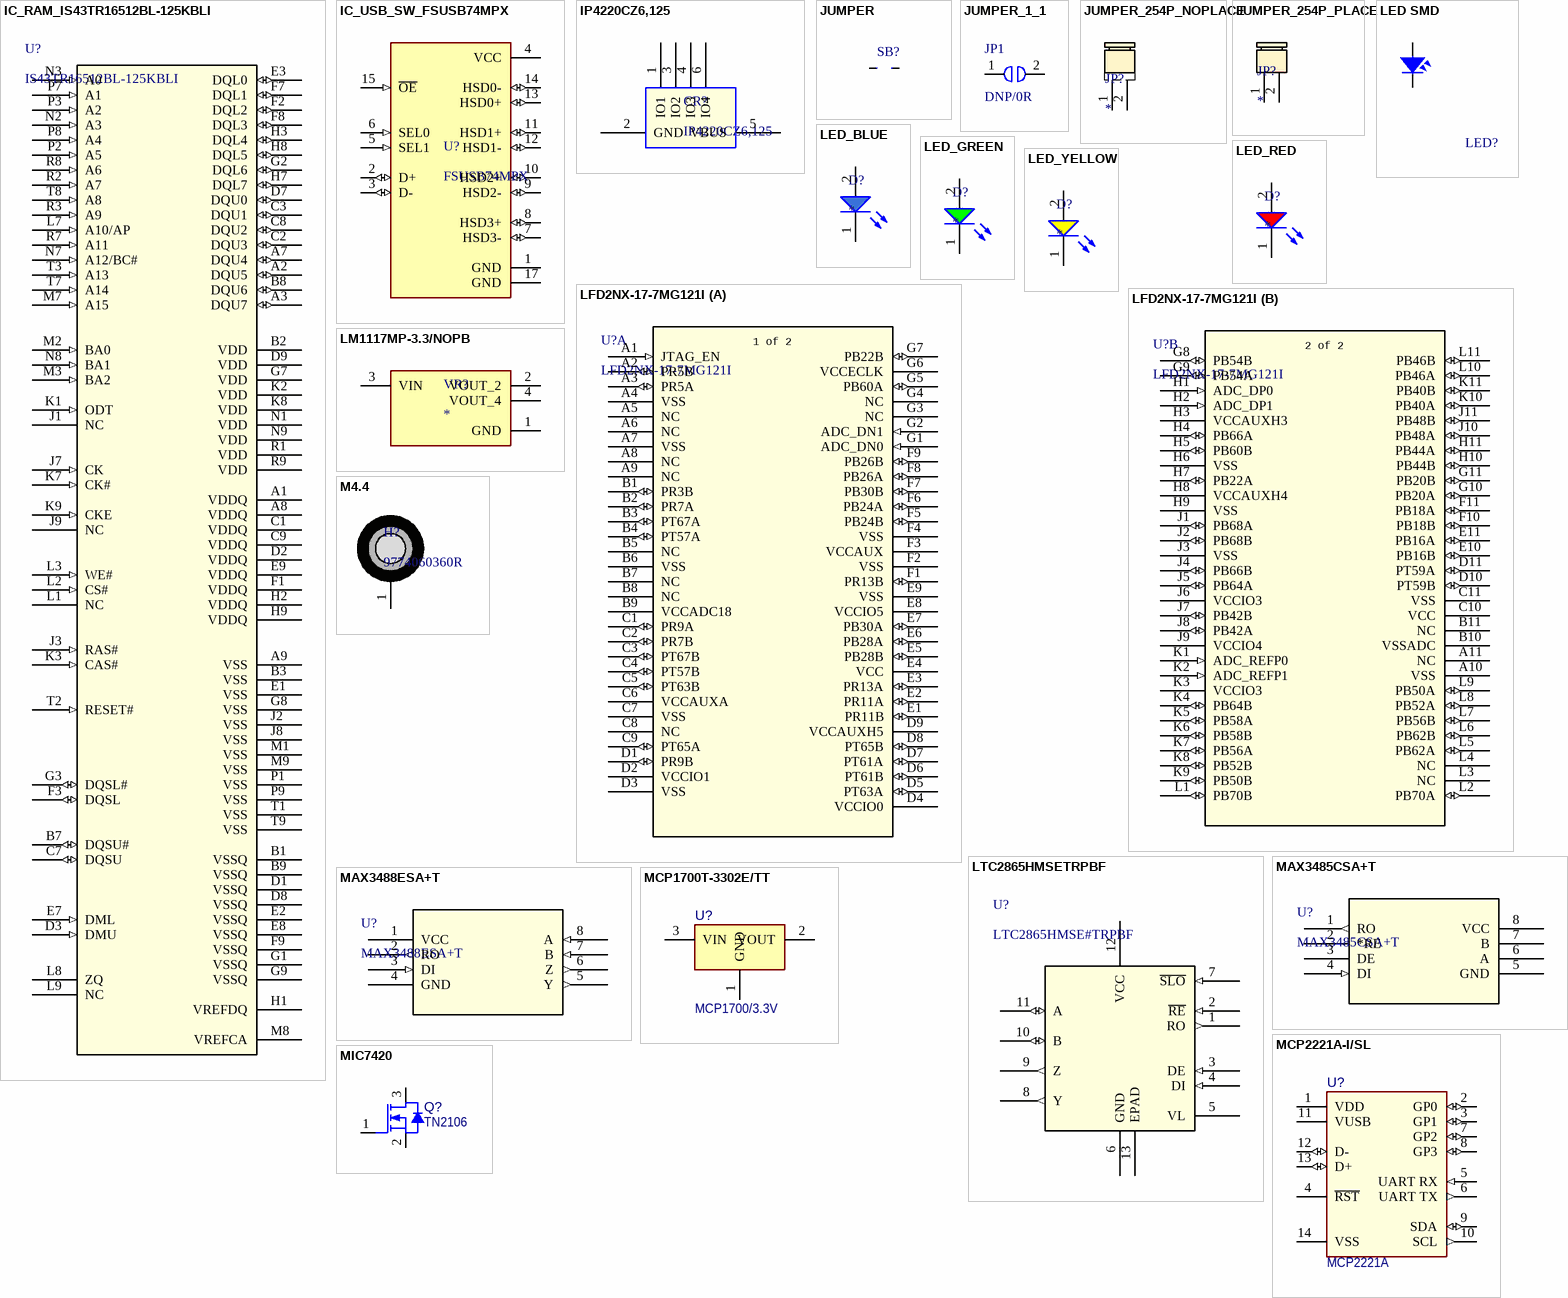
[diagram p2: symbols IC_RAM_IS43TR16512BL-125KBLI to MIC7420]

## IC_RAM_IS43TR16512BL-125KBLI
designator U?, comment IS43TR16512BL-125KBLI
DDR3L; Manufacturer_Name: ISSI; Copyright: Copyright (C) 2025 Ultra Librarian. All rights reserved.; Manufacturer_Part_Number: IS43TR16512BL-125KBLI; RefDes: RefDes; Type: Type
footprint TWBGA96_ISI
pins: A1 VDDQ (power), A2 DQU5 (io), A3 DQU7 (io), A7 DQU4 (io), A8 VDDQ (power), A9 VSS (power), B1 VSSQ (power), B2 VDD (power), B3 VSS (power), B7 DQSU# (io), B8 DQU6 (io), B9 VSSQ (power), C1 VDDQ (power), C2 DQU3 (io), C3 DQU1 (io), C7 DQSU (io), C8 DQU2 (io), C9 VDDQ (power), D1 VSSQ (power), D2 VDDQ (power), D3 DMU (in), D7 DQU0 (io), D8 VSSQ (power), D9 VDD (power), E1 VSS (power), E2 VSSQ (power), E3 DQL0 (io), E7 DML (in), E8 VSSQ (power), E9 VDDQ (power), F1 VDDQ (power), F2 DQL2 (io), F3 DQSL (io), F7 DQL1 (io), F8 DQL3 (io), F9 VSSQ (power), G1 VSSQ (power), G2 DQL6 (io), G3 DQSL# (io), G7 VDD (power), G8 VSS (power), G9 VSSQ (power), H1 VREFDQ (power), H2 VDDQ (power), H3 DQL4 (io), H7 DQL7 (io), H8 DQL5 (io), H9 VDDQ (power), J1 NC, J2 VSS (power), J3 RAS# (in), J7 CK (in), J8 VSS (power), J9 NC, K1 ODT (in), K2 VDD (power), K3 CAS# (in), K7 CK# (in), K8 VDD (power), K9 CKE (in), L1 NC, L2 CS# (in), L3 WE# (in), L7 A10/AP (in), L8 ZQ (power), L9 NC, M1 VSS (power), M2 BA0 (in), M3 BA2 (in), M7 A15 (in), M8 VREFCA (power), M9 VSS (power), N1 VDD (power), N2 A3 (in), N3 A0 (in), N7 A12/BC# (in), N8 BA1 (in), N9 VDD (power), P1 VSS (power), P2 A5 (in), P3 A2 (in), P7 A1 (in), P8 A4 (in), P9 VSS (power), R1 VDD (power), R2 A7 (in), R3 A9 (in), R7 A11 (in), R8 A6 (in), R9 VDD (power), T1 VSS (power), T2 RESET# (in), T3 A13 (in), T7 A14 (in), T8 A8 (in), T9 VSS (power)

## IC_USB_SW_FSUSB74MPX
designator U?, comment FSUSB74MPX
USB Switch IC 1 Channel 16-MLP (3x3); MF: ON Semiconductor; SnapEDA_Link: https://www.snapeda.com/parts/FSUSB74MPX/Onsemi/view-part/?ref=snap; Package: WQFN-16 ON Semiconductor; Value: *; MP: FSUSB74MPX; Check_prices: https://www.snapeda.com/parts/FSUSB74MPX/Onsemi/view-part/?ref=eda
footprint QFN50P300X300X80-17N
pins: 1 GND (power), 2 D+ (io), 3 D- (io), 4 VCC (power), 5 SEL1 (in), 6 SEL0 (in), 7 HSD3- (io), 8 HSD3+ (io), 9 HSD2- (io), 10 HSD2+ (io), 11 HSD1+ (io), 12 HSD1- (io), 13 HSD0+ (io), 14 HSD0- (io), 15 ~{OE} (in), 17 GND (power)

## IP4220CZ6,125
designator CR?
TVS DIODE 5.5VWM 6TSOP; Manufacturer_Name: Nexperia; Copyright: Copyright (C) 2025 Ultra Librarian. All rights reserved.; Manufacturer_Part_Number: IP4220CZ6,125; RefDes: RefDes; Type: Type
footprint DIODE_SOT457_1P7X3P1_NEX
pins: 1 IO1, 2 GND, 3 IO2, 4 IO3, 5 VBUS, 6 IO4

## JUMPER
designator SB?  (value not drawn)
footprint JUMPER_1608
pins: 1, 2

## JUMPER_1_1
designator JP1, comment DNP/0R
footprint JUMPER2
footprint JUMPER-EXP-V110
footprint JUMPER-EXP-V110
footprint JUMPER
footprint JUMPER
footprint RES_C_1608X60 (Chip Resistor, 2-Leads, Body 1.63x0.83mm, IPC High Density)
pins: 1, 2

## JUMPER_254P_NOPLACE
designator JP?
footprint JUMPER_254P_2X1_NOPLACE
pins: 1, 2

## JUMPER_254P_PLACE
designator JP?
footprint JUMPER_254P_2X1_PLACE - duplicate
pins: 1, 2

## LED SMD
designator LED?, comment LED  (value not drawn)
Value: LED 3 - 5 ly 2 Colour
footprint LED-0603-RED
footprint LED-0603-YELLOW
footprint LED-0805-Red
footprint LED-0805-Yellow
footprint LED-0603-Blue
footprint LED-0805-Blue
pins: 1, 2

## LED_BLUE
designator D?
footprint LED-0603-Blue
pins: 1 K, 2 A

## LED_GREEN
designator D?
footprint LED-0603-GREEN
pins: 1 K, 2 A

## LED_RED
designator D?
footprint LED-0603-RED
pins: 1 K, 2 A

## LED_YELLOW
designator D?
footprint LED-0603-YELLOW
pins: 1 K, 2 A

## LFD2NX-17-7MG121I
designator U?
Description; Manufacturer_Name: Lattice; Type: Embedded; Copyright: Copyright (C) 2025 Ultra Librarian. All rights reserved.; Manufacturer_Part_Number: LFD2NX-17-7MG121I; RefDes: RefDes
footprint csfBGA121_LAT
part A pins: A1 JTAG_EN (in), A2 PR5B (io), A3 PR5A (io), A4 VSS (power), A5 NC, A6 NC, A7 VSS (power), A8 NC, A9 NC, B1 PR3B (io), B2 PR7A (io), B3 PT67A (io), B4 PT57A (io), B5 NC, B6 VSS (power), B7 NC, B8 NC, B9 VCCADC18 (power), C1 PR9A (io), C2 PR7B (io), C3 PT67B (io), C4 PT57B (io), C5 PT63B (io), C6 VCCAUXA (power), C7 VSS (power), C8 NC, C9 PT65A (io), D1 PR9B (io), D2 VCCIO1 (power), D3 VSS (power), D4 VCCIO0 (power), D5 PT63A (io), D6 PT61B (io), D7 PT61A (io), D8 PT65B (io), D9 VCCAUXH5 (power), E1 PR11B (io), E2 PR11A (io), E3 PR13A (io), E4 VCC (power), E5 PB28B (io), E6 PB28A (io), E7 PB30A (io), E8 VCCIO5 (power), E9 VSS (power), F1 PR13B (io), F2 VSS (power), F3 VCCAUX (power), F4 VSS (power), F5 PB24B (io), F6 PB24A (io), F7 PB30B (io), F8 PB26A (io), F9 PB26B (io), G1 ADC_DN0 (in), G2 ADC_DN1 (in), G3 NC, G4 NC, G5 PB60A (io), G6 VCCECLK (power), G7 PB22B (io)
part B pins: A10 VSS (power), A11 NC, B10 VSSADC (power), B11 NC, C10 VCC (power), C11 VSS (power), D10 PT59B (io), D11 PT59A (io), E10 PB16B (io), E11 PB16A (io), F10 PB18B (io), F11 PB18A (io), G8 PB54B (io), G9 PB54A (io), G10 PB20A (io), G11 PB20B (io), H1 ADC_DP0 (in), H2 ADC_DP1 (in), H3 VCCAUXH3 (power), H4 PB66A (io), H5 PB60B (io), H6 VSS (power), H7 PB22A (io), H8 VCCAUXH4 (power), H9 VSS (power), H10 PB44B (io), H11 PB44A (io), J1 PB68A (io), J2 PB68B (io), J3 VSS (power), J4 PB66B (io), J5 PB64A (io), J6 VCCIO3 (power), J7 PB42B (io), J8 PB42A (io), J9 VCCIO4 (power), J10 PB48A (io), J11 PB48B (io), K1 ADC_REFP0 (in), K2 ADC_REFP1 (in), K3 VCCIO3 (power), K4 PB64B (io), K5 PB58A (io), K6 PB58B (io), K7 PB56A (io), K8 PB52B (io), K9 PB50B (io), K10 PB40A (io), K11 PB40B (io), L1 PB70B (io), L2 PB70A (io), L3 NC, L4 NC, L5 PB62A (io), L6 PB62B (io), L7 PB56B (io), L8 PB52A (io), L9 PB50A (io), L10 PB46A (io), L11 PB46B (io)
part A text: 1 of 2
part B text: 2 of 2

## LM1117MP-3.3/NOPB
designator VR?
800-mA 15-V linear voltage regulator; MF: Texas Instruments; MP: LM1117MP-3.3/NOPB; SnapEDA_Link: https://www.snapeda.com/parts/LM1117MP-3.3/NOPB/Texas+Instruments/view-part/?ref=snap; Package: SOT-223-4 Texas Instruments; Value: *; Check_prices: https://www.snapeda.com/parts/LM1117MP-3.3/NOPB/Texas+Instruments/view-part/?ref=eda
footprint VREG_LM1117MP-3.3/NOPB
pins: 1 GND (power), 2 VOUT_2 (power), 3 VIN (power), 4 VOUT_4 (power)

## LTC2865HMSETRPBF
designator U?, comment LTC2865HMSE#TRPBF
Â±60V Fault Protected 3V to 5.5V RS485/RS422 Transceivers; Manufacturer_Name: Analog Devices Inc; Copyright: Copyright (C) 2025 Ultra Librarian. All rights reserved.; Manufacturer_Part_Number: LTC2865HMSE#TRPBF; RefDes: RefDes; Type: Type
pins: 1 RO (out), 2 ~{RE} (in), 3 DE (in), 4 DI (in), 5 VL (power), 6 GND (power), 7 ~{SLO} (in), 8 Y (out), 9 Z (out), 10 B (io), 11 A (io), 12 VCC (power), 13 EPAD

## M4.4
designator H?, comment 9774060360R
WA-SMSI SMT Steel Spacer with / internal Thread
footprint M4.4
pins: 1

## MAX3485CSA+T
designator U?
Low-Power, Slew-Rate-Limited RS-485/RS-422 Transceivers, IC TRANSCEIVER HALF 1/1 8SOIC; Manufacturer_Name: Analog Devices Inc; Manufacturer_Part_Number: MAX485CSA+T; Copyright: Copyright (C) 2025 Ultra Librarian. All rights reserved.; RefDes: RefDes; Type: Type
footprint 21-0041-3-M_90-0096-8L_MXM
pins: 1 RO (out), 2 *RE, 3 DE, 4 DI (in), 5 GND (power), 6 A, 7 B, 8 VCC (power)

## MAX3488ESA+T
designator U?
Low-Power, Slew-Rate-Limited RS-485/RS-422, IC TRANSCEIVER FULL 1/1 8SOIC; Manufacturer_Name: Analog Devices Inc; Manufacturer_Part_Number: MAX488ESA+T; Copyright: Copyright (C) 2025 Ultra Librarian. All rights reserved.; Digi-Key_Part_Number_1: MAX488ESA+CT-ND; Digi-Key_Part_Number_2: MAX488ESA+DKR-ND; Digi-Key_Part_Number_3: MAX488ESA+T-ND; Digi-Key_Part_Number_4: MAX488ESA+TR-ND; RefDes: RefDes; Type: Type
footprint 21-0041-3-M_90-0096-8L_MXM
pins: 1 VCC (power), 2 RO (out), 3 DI (in), 4 GND (power), 5 Y (out), 6 Z (out), 7 B (in), 8 A (in)

## MCP1700T-3302E/TT
designator U?, comment value MCP1700/3.3V  (hidden comment: MCP170X SOT-23-3_SOT-23A-3)
IC REG LINEAR 3.3V 250MA SOT23-3; Manufacturer 1: Microchip Technology; Manufacturer Part Number 1: MCP1700T-3302E/TT; MCHP-ID: MIC0598; Description_: MCHP ANALOG LDO 3.3V MCP1700T-3302E/TT SOT-23-3; Dev Tools Status: Production; Populated: Yes; Symbol: MCP170X SOT-23-3_SOT-23A-3; Type: LDO; Status: MCL Design; Revision: 1; Category: MCHP-Analog; ComponentLink1URL: https://www.microchip.com/sitesearch/search/Product%20and%20Development%20Tools/MCP1700T-3302E/TT; ComponentLink1Description: SVN Datasheet; ComponentLink2Description: Local Datasheet; ComponentLink3URL: C:\ALTIUM_WORK\00001_MCHP-CDB\Library\LibraryRefs\MCP170X SOT-23-3_SOT-23A-3.SchLib; ComponentLink3Description: Open Symbol; ComponentLink4URL: C:\ALTIUM_WORK\00001_MCHP-CDB\Library\Footprints\SOT-23-3.PcbLib; ComponentLink4Description: Open Footprint; ComponentLink5Description: Open Footprint 2; ComponentLink6Description: Open Footprint 3; ComponentLink7Description: Open Footprint 4; Supplier 1: Microchip Technology; Supplier Part Number 1: MCP1700T-3302E/TT; Operating Temperature: -40C to +125C; Quantity Override: 1
footprint SOT-23-3
pins: 1 GND (power), 2 VOUT (power), 3 VIN (power)

## MCP2221A-I/SL
designator U?, comment value MCP2221A  (hidden comment: MCP2221 SOIC-14_TSSOP-14_PDIP-14)
IC USB TO I2C/UART 14SOIC; Manufacturer 1: Microchip Technology; Manufacturer Part Number 1: MCP2221A-I/SL; MCHP-ID: MIC9078; Description_: MCHP INTERFACE USB I2C UART MCP2221A-I/SL SOIC-14; Dev Tools Status: Design; Owner: Octavian Stroe; Populated: YES; Symbol: MCP2221 SOIC-14_TSSOP-14_PDIP-14; Type: USB; Status: MCL Design; Revision: A; Category: MCHP-Interface; ComponentLink1URL: https://chn-vm-apps.microchip.com/mchprepo/parts/Datasheets/20005292B.pdf; ComponentLink1Description: SVN Datasheet; ComponentLink2URL: C:\ALTIUM_WORK\00001_MCHP-CDB\Datasheets\20005292B.pdf; ComponentLink2Description: Local Datasheet; ComponentLink3URL: C:\ALTIUM_WORK\00001_MCHP-CDB\Library\LibraryRefs\MCP2221 SOIC-14_TSSOP-14_PDIP-14.SchLib; ComponentLink3Description: Open Symbol; ComponentLink4URL: C:\ALTIUM_WORK\00001_MCHP-CDB\Library\Footprints\SOIC-14.PcbLib; ComponentLink4Description: Open Footprint; ComponentLink5Description: Open Footprint 2; ComponentLink6Description: Open Footprint 3; ComponentLink7Description: Open Footprint 4; Manufacturer 2: Microchip Technology; Manufacturer Part Number 2: MCP2221A-I/SL; Supplier 1: Digi-Key; Supplier Part Number 1: MCP2221A-I/SL-ND; Supplier 2: Mouser; Supplier Part Number 2: 579-MCP2221A-I/SL; Operating Temperature: -40C to +85C; Quantity Override: 1
footprint SOIC-14 (SOIC 150mil, 14-Leads, Body 8.65x3.9mm, Pitch 1.27mm)
pins: 1 VDD (power), 2 GP0 (io), 3 GP1 (io), 4 ~{RST}, 5 UART RX (in), 6 UART TX (out), 7 GP2 (io), 8 GP3 (io), 9 SDA (io), 10 SCL (out), 11 VUSB (power), 12 D- (io), 13 D+ (io), 14 VSS (power)
1 alternate drawing of the same symbol

## MIC7420
designator Q?, comment value TN2106  (hidden comment: Transistor MOS-N GSD)
Transistor MOS; Manufacturer 1: Microchip Technology; Manufacturer Part Number 1: TN2106K1-G; MCHP-ID: MIC7420; Description_: MCHP ANALOG MOSFET N-CH TN2106 60V 280mA 360mW 2.5R SOT23-3; Type: MOSFET; Dev Tools Status: Production; Owner: Ilie Galan; Populated: YES; Symbol: Transistor MOS-N GSD; Status: MCL Design; Revision: 1; Category: MCHP-Analog; ComponentLink1Description: SVN Datasheet; ComponentLink2URL: C:\ALTIUM_WORK\00001_MCHP-CDB\Datasheets\TN2106 B080913.pdf; ComponentLink2Description: Local Datasheet; ComponentLink3URL: C:\ALTIUM_WORK\00001_MCHP-CDB\Library\LibraryRefs\Transistor MOS-N GSD.SchLib; ComponentLink3Description: Open Symbol; ComponentLink4URL: C:\ALTIUM_WORK\00001_MCHP-CDB\Library\Footprints\SOT-23-3.PcbLib; ComponentLink4Description: Open Footprint; ComponentLink5Description: Open Footprint 2; ComponentLink6Description: Open Footprint 3; ComponentLink7Description: Open Footprint 4; Supplier 1: Microchip Technology; Supplier Part Number 1: TN2106K1-G; Quantity Override: 1
footprint SOT-23-3
pins: 1 G, 2 S, 3 D

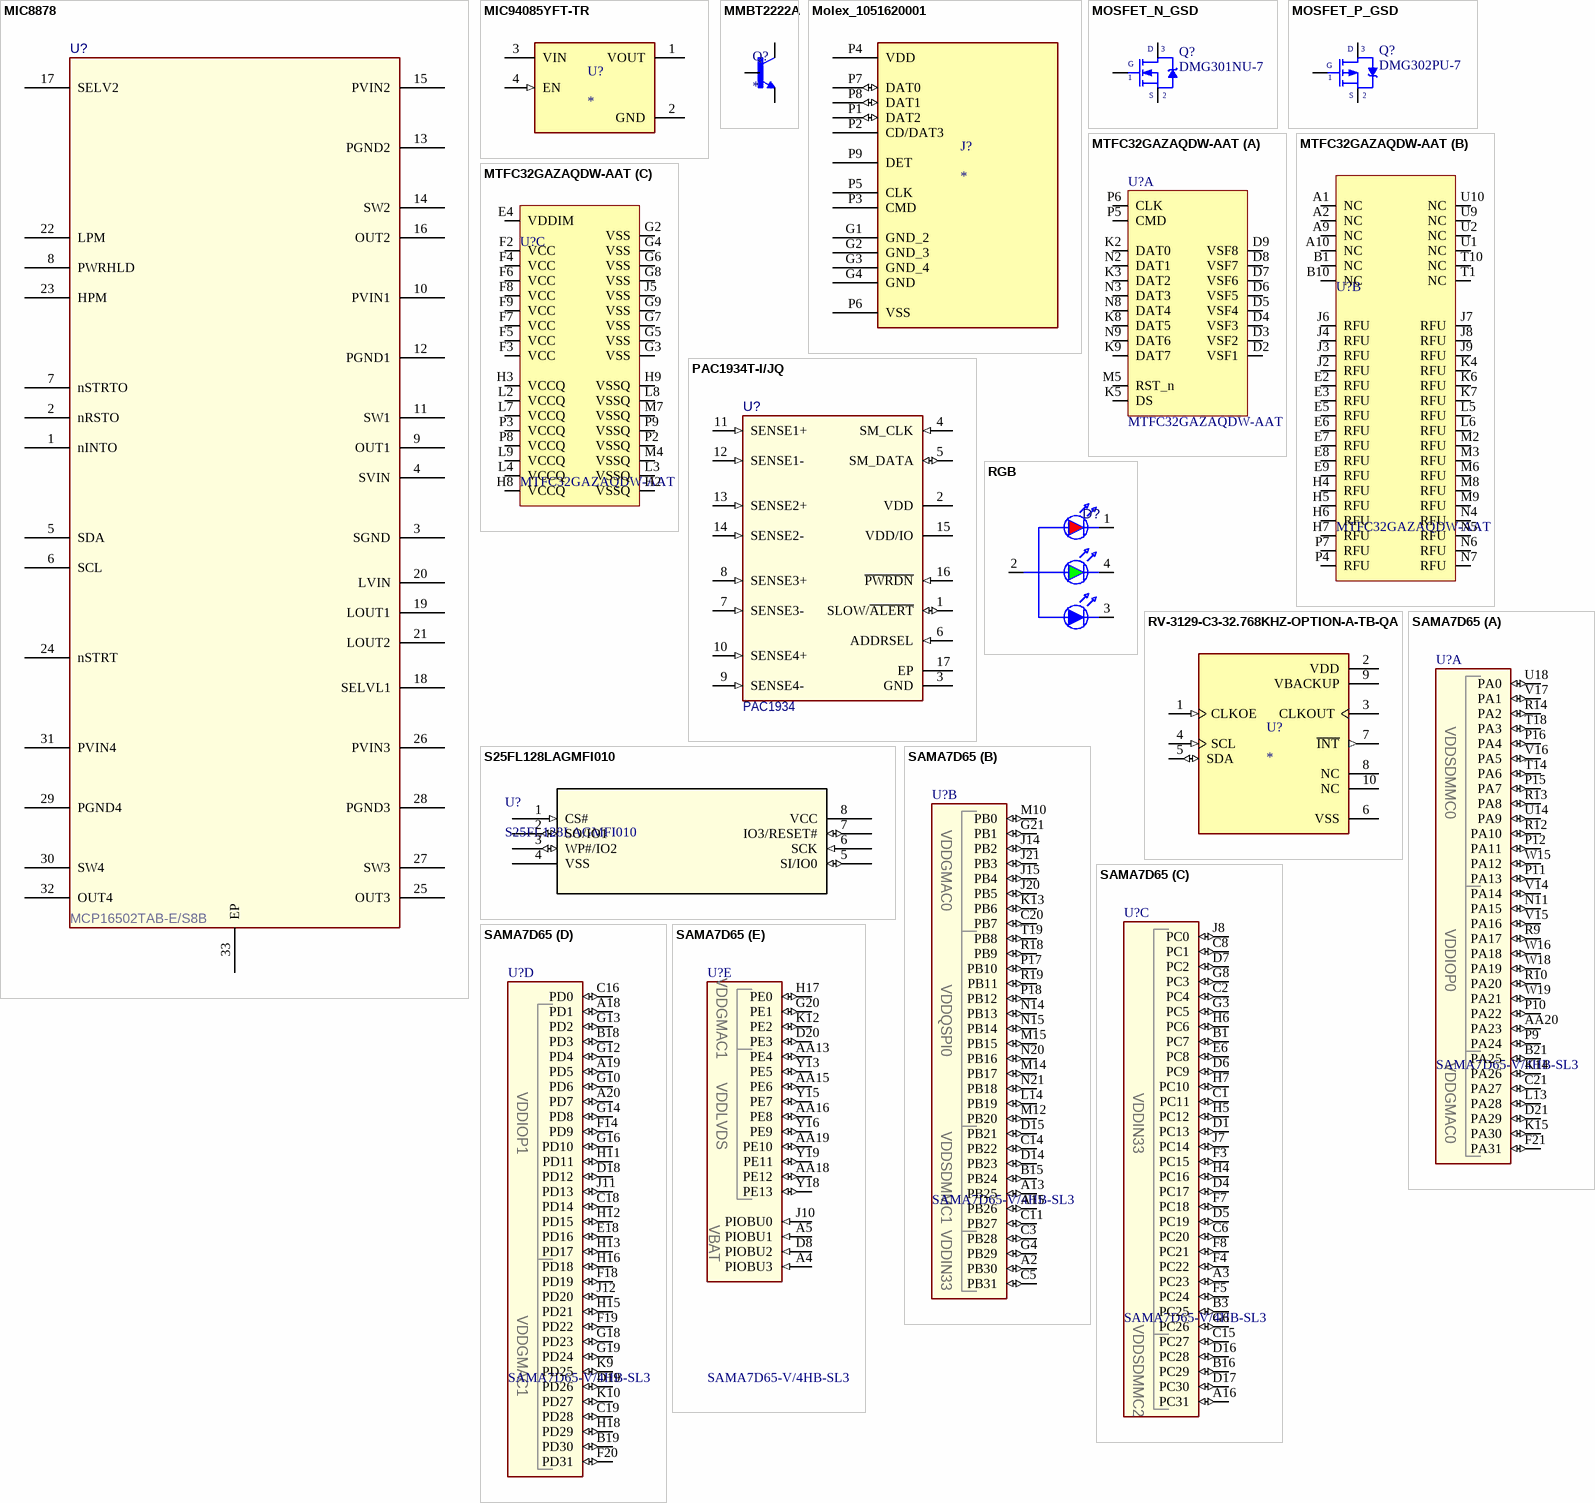
[diagram p3: symbols MIC8878 to SAMA7D65]

## MIC8878
designator U?, comment value MCP16502TAB-E/S8B  (hidden comment: MCP16502 QFN-32)
Manufacturer 1: Microchip Technology; Populated: YES; MCHP-ID: MIC8878; Description_: MCHP ANALOG PMIC SWITCHER Buck ADJ MCP16502TAB-E/S8B QFN-32 for SAMA7G5 MPU with LPDDR/DDR2/DDR3; Dev Tools Status: Design; Owner: Dragos Danaila; Symbol: MCP16502 QFN-32; Type: Switcher; Status: MCL Design; Revision: 1; Category: MCHP-Analog; ComponentLink1Description: SVN Datasheet; ComponentLink2Description: Local Datasheet; ComponentLink3URL: C:\ALTIUM_WORK\00001_MCHP-CDB\Library\LibraryRefs\MCP16502 QFN-32.SchLib; ComponentLink3Description: Open Symbol; ComponentLink4URL: C:\ALTIUM_WORK\00001_MCHP-CDB\Library\Footprints\QFN-32_5X5_EP3.7X3.7.PcbLib; ComponentLink4Description: Open Footprint; ComponentLink5Description: Open Footprint 2; ComponentLink6Description: Open Footprint 3; ComponentLink7Description: Open Footprint 4; Manufacturer Part Number 1: MCP16502TAB-E/S8B; Supplier 1: Digi-Key; Supplier Part Number 1: 150-MCP16502TAB-E/S8BCT-ND; Quantity Override: 1; ComponentLink2URL: C:\ALTIUM_WORK\00001_MCHP-CDB\Datasheets\MCP16502-High-Performance-PMIC-for-SAMA5DX-SAM9X6-MPUs-Data-Sheet-DS20006275B.pdf
footprint QFN-32_5X5_EP3.7X3.7 (QFN32_5MMwith ePAD)
pins: 1 nINTO, 2 nRSTO, 3 SGND, 4 SVIN, 5 SDA, 6 SCL, 7 nSTRTO, 8 PWRHLD, 9 OUT1, 10 PVIN1, 11 SW1, 12 PGND1, 13 PGND2, 14 SW2, 15 PVIN2, 16 OUT2, 17 SELV2, 18 SELVL1, 19 LOUT1, 20 LVIN, 21 LOUT2, 22 LPM, 23 HPM, 24 nSTRT, 25 OUT3, 26 PVIN3, 27 SW3, 28 PGND3, 29 PGND4, 30 SW4, 31 PVIN4, 32 OUT4, 33 EP
1 alternate drawing of the same symbol

## MIC94085YFT-TR
designator U?
Power Switch/Driver 1:1 P-Channel 2A 4-TMLFÂ® (0.85x0.85); MF: Microchip; MP: MIC94085YFT-TR; SnapEDA_Link: https://www.snapeda.com/parts/MIC94085YFT-TR/Microchip+Technology/view-part/?ref=snap; Package: UFDFN-4 Microchip; Value: *; Check_prices: https://www.snapeda.com/parts/MIC94085YFT-TR/Microchip+Technology/view-part/?ref=eda
footprint IC_MIC94085YFT-TR
pins: 1 VOUT (power), 2 GND (power), 3 VIN (power), 4 EN (in)

## MMBT2222A
designator Q?
BJT, SOT-23, 40V, 600mA, NPN, 0.25W, 150Â°C; MF: Diotec Semiconductor; MP: MMBT2222A; SnapEDA_Link: https://www.snapeda.com/parts/MMBT2222A/Diotec/view-part/?ref=snap; Package: SOT-23 Diotec; Value: *; Check_prices: https://www.snapeda.com/parts/MMBT2222A/Diotec/view-part/?ref=eda
footprint SOT95P240X120-3N
pins: 1 B, 2 E, 3 C

## Molex_1051620001
designator J?
9 (8 + 1) Position Card Connector Secure Digital - microSDâ„¢ Surface Mount, Right Angle Gold; MF: Molex; MP: 1051620001; SnapEDA_Link: https://www.snapeda.com/parts/1051620001/Molex/view-part/?ref=snap; Package: None; Value: *; Check_prices: https://www.snapeda.com/parts/1051620001/Molex/view-part/?ref=eda
footprint 105162-0001_MOL
pins: G1 GND_2, G2 GND_3, G3 GND_4, G4 GND, P1 DAT2 (io), P2 CD/DAT3, P3 CMD, P4 VDD (power), P5 CLK, P6 VSS, P7 DAT0 (io), P8 DAT1 (io), P9 DET

## MOSFET_N_GSD
designator Q?, comment DMG301NU-7
footprint SOT95P240X120-3N
pins: 1 G, 2 S, 3 D

## MOSFET_P_GSD
designator Q?, comment DMG302PU-7
footprint TO252-123
footprint SOT23-3-123
footprint SOT95P240X120-3N
footprint SOT23-3-213
pins: 1 G, 2 S, 3 D

## MTFC32GAZAQDW-AAT
designator U?
footprint BGA_100_C_100P_10X17_1400X1800X150 (BGA, 100-Leads, Body 14.00x18.00mmx1.50mm, Pitch 1.00mm)
part A pins: D2 VSF1, D3 VSF2, D4 VSF3, D5 VSF4, D6 VSF5, D7 VSF6, D8 VSF7, D9 VSF8, K2 DAT0, K3 DAT2, K5 DS, K8 DAT5, K9 DAT7, M5 RST_n, N2 DAT1, N3 DAT3, N8 DAT4, N9 DAT6, P5 CMD, P6 CLK
part B pins: A1 NC, A2 NC, A9 NC, A10 NC, B1 NC, B10 NC, E2 RFU, E3 RFU, E5 RFU, E6 RFU, E7 RFU, E8 RFU, E9 RFU, H4 RFU, H5 RFU, H6 RFU, H7 RFU, J2 RFU, J3 RFU, J4 RFU, J6 RFU, J7 RFU, J8 RFU, J9 RFU, K4 RFU, K6 RFU, K7 RFU, L5 RFU, L6 RFU, M2 RFU, M3 RFU, M6 RFU, M8 RFU, M9 RFU, N4 RFU, N5 RFU, N6 RFU, N7 RFU, P4 RFU, P7 RFU, T1 NC, T10 NC, U1 NC, U2 NC, U9 NC, U10 NC
part C pins: E4 VDDIM, F2 VCC, F3 VCC, F4 VCC, F5 VCC, F6 VCC, F7 VCC, F8 VCC, F9 VCC, G2 VSS, G3 VSS, G4 VSS, G5 VSS, G6 VSS, G7 VSS, G8 VSS, G9 VSS, H2 VSSQ, H3 VCCQ, H8 VCCQ, H9 VSSQ, J5 VSS, L2 VCCQ, L3 VSSQ, L4 VCCQ, L7 VCCQ, L8 VSSQ, L9 VCCQ, M4 VSSQ, M7 VSSQ, P2 VSSQ, P3 VCCQ, P8 VCCQ, P9 VSSQ